# Altium footprint library Full_lib.PcbLib: 247 footprints (part 14 of 16)
Each footprint in its own frame and in the unit in brackets; x right, y up, seen from the top. Pads: shape width x height; smd on the part's side, far side on the other; paste and mask are expansions set on the pad; w line width, h text height; cw(c..) or ccw(c..) is an arc to the next point about the centre after c.
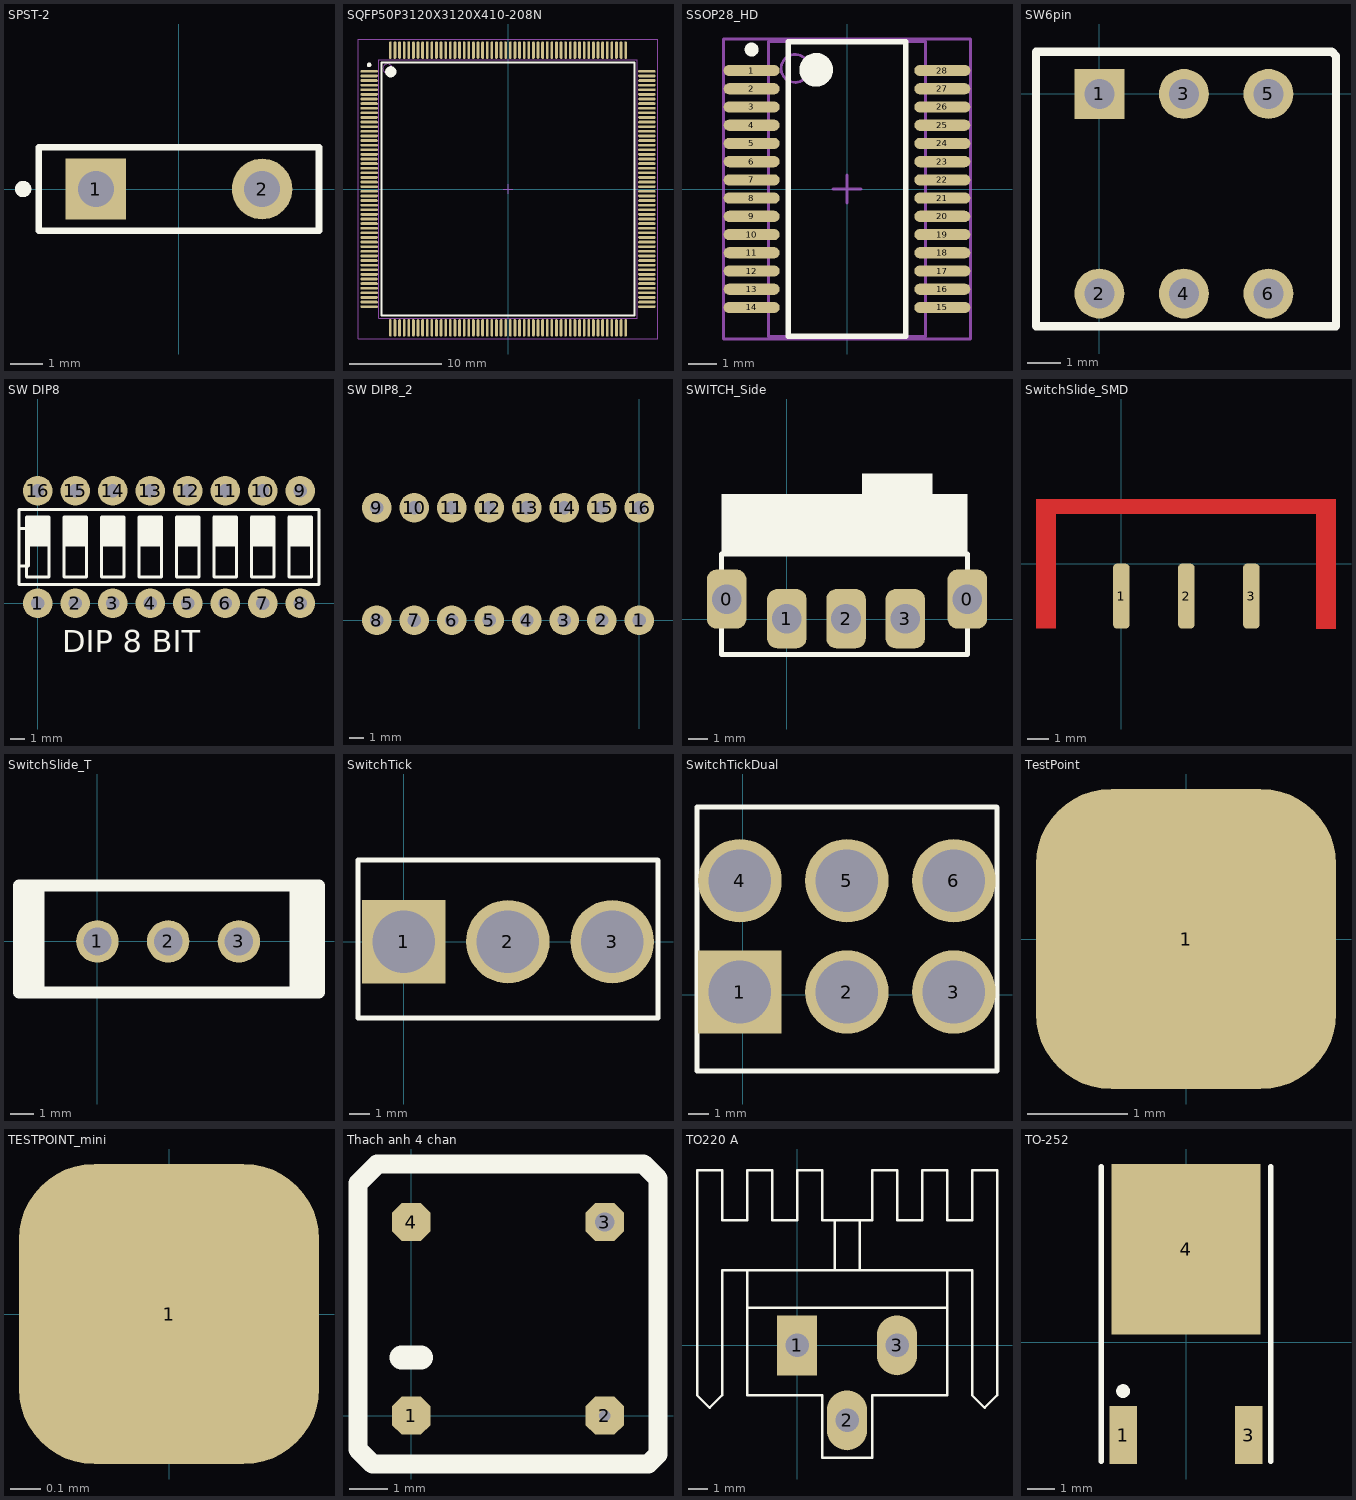
[diagram p13: the footprints below, top view; thin cyan lines are the x and y axes]

## SPST-2 [mm] "Circuit Breaker; 2 Leads"
height 3.9
pads (2):
  rect 1.85x1.85 hole 1.1: 1(-2.54,0)
  round 1.85 hole 1.1: 2(2.54,0)
Top Overlay:
  circle w0.25: c-4.761,-0.001 r0.125
  lines w0.2: -4.28,-1.27 4.28,-1.27 4.28,1.27 -4.28,1.27 -4.28,-1.27

## SQFP50P3120X3120X410-208N [mm] "SQFP, 208-Leads, Body 31.2x31.2mm (max), Pitch 0.50mm, IPC Medium Density"
height 4.1
pads (208):
  oval 1.9x0.3 smd: 1(-15.05,12.75) 2(-15.05,12.25) 3(-15.05,11.75) 4(-15.05,11.25) 5(-15.05,10.75) 6(-15.05,10.25) 7(-15.05,9.75) 8(-15.05,9.25) 9(-15.05,8.75) 10(-15.05,8.25) 11(-15.05,7.75) 12(-15.05,7.25) 13(-15.05,6.75) 14(-15.05,6.25) 15(-15.05,5.75) 16(-15.05,5.25) 17(-15.05,4.75) 18(-15.05,4.25) 19(-15.05,3.75) 20(-15.05,3.25) 21(-15.05,2.75) 22(-15.05,2.25) 23(-15.05,1.75) 24(-15.05,1.25) 25(-15.05,0.75) 26(-15.05,0.25) 27(-15.05,-0.25) 28(-15.05,-0.75) 29(-15.05,-1.25) 30(-15.05,-1.75) 31(-15.05,-2.25) 32(-15.05,-2.75) 33(-15.05,-3.25) 34(-15.05,-3.75) 35(-15.05,-4.25) 36(-15.05,-4.75) 37(-15.05,-5.25) 38(-15.05,-5.75) 39(-15.05,-6.25) 40(-15.05,-6.75) 41(-15.05,-7.25) 42(-15.05,-7.75) 43(-15.05,-8.25) 44(-15.05,-8.75) 45(-15.05,-9.25) 46(-15.05,-9.75) 47(-15.05,-10.25) 48(-15.05,-10.75) 49(-15.05,-11.25) 50(-15.05,-11.75) 51(-15.05,-12.25) 52(-15.05,-12.75) 105(15.05,-12.75) 106(15.05,-12.25) 107(15.05,-11.75) 108(15.05,-11.25) 109(15.05,-10.75) 110(15.05,-10.25) 111(15.05,-9.75) 112(15.05,-9.25) 113(15.05,-8.75) 114(15.05,-8.25) 115(15.05,-7.75) 116(15.05,-7.25) 117(15.05,-6.75) 118(15.05,-6.25) 119(15.05,-5.75) 120(15.05,-5.25) 121(15.05,-4.75) 122(15.05,-4.25) 123(15.05,-3.75) 124(15.05,-3.25) 125(15.05,-2.75) 126(15.05,-2.25) 127(15.05,-1.75) 128(15.05,-1.25) 129(15.05,-0.75) 130(15.05,-0.25) 131(15.05,0.25) 132(15.05,0.75) 133(15.05,1.25) 134(15.05,1.75) 135(15.05,2.25) 136(15.05,2.75) 137(15.05,3.25) 138(15.05,3.75) 139(15.05,4.25) 140(15.05,4.75) 141(15.05,5.25) 142(15.05,5.75) 143(15.05,6.25) 144(15.05,6.75) 145(15.05,7.25) 146(15.05,7.75) 147(15.05,8.25) 148(15.05,8.75) 149(15.05,9.25) 150(15.05,9.75) 151(15.05,10.25) 152(15.05,10.75) 153(15.05,11.25) 154(15.05,11.75) 155(15.05,12.25) 156(15.05,12.75)
  oval 0.3x1.9 smd: 53(-12.75,-15.05) 54(-12.25,-15.05) 55(-11.75,-15.05) 56(-11.25,-15.05) 57(-10.75,-15.05) 58(-10.25,-15.05) 59(-9.75,-15.05) 60(-9.25,-15.05) 61(-8.75,-15.05) 62(-8.25,-15.05) 63(-7.75,-15.05) 64(-7.25,-15.05) 65(-6.75,-15.05) 66(-6.25,-15.05) 67(-5.75,-15.05) 68(-5.25,-15.05) 69(-4.75,-15.05) 70(-4.25,-15.05) 71(-3.75,-15.05) 72(-3.25,-15.05) 73(-2.75,-15.05) 74(-2.25,-15.05) 75(-1.75,-15.05) 76(-1.25,-15.05) 77(-0.75,-15.05) 78(-0.25,-15.05) 79(0.25,-15.05) 80(0.75,-15.05) 81(1.25,-15.05) 82(1.75,-15.05) 83(2.25,-15.05) 84(2.75,-15.05) 85(3.25,-15.05) 86(3.75,-15.05) 87(4.25,-15.05) 88(4.75,-15.05) 89(5.25,-15.05) 90(5.75,-15.05) 91(6.25,-15.05) 92(6.75,-15.05) 93(7.25,-15.05) 94(7.75,-15.05) 95(8.25,-15.05) 96(8.75,-15.05) 97(9.25,-15.05) 98(9.75,-15.05) 99(10.25,-15.05) 100(10.75,-15.05) 101(11.25,-15.05) 102(11.75,-15.05) 103(12.25,-15.05) 104(12.75,-15.05) 157(12.75,15.05) 158(12.25,15.05) 159(11.75,15.05) 160(11.25,15.05) 161(10.75,15.05) 162(10.25,15.05) 163(9.75,15.05) 164(9.25,15.05) 165(8.75,15.05) 166(8.25,15.05) 167(7.75,15.05) 168(7.25,15.05) 169(6.75,15.05) 170(6.25,15.05) 171(5.75,15.05) 172(5.25,15.05) 173(4.75,15.05) 174(4.25,15.05) 175(3.75,15.05) 176(3.25,15.05) 177(2.75,15.05) 178(2.25,15.05) 179(1.75,15.05) 180(1.25,15.05) 181(0.75,15.05) 182(0.25,15.05) 183(-0.25,15.05) 184(-0.75,15.05) 185(-1.25,15.05) 186(-1.75,15.05) 187(-2.25,15.05) 188(-2.75,15.05) 189(-3.25,15.05) 190(-3.75,15.05) 191(-4.25,15.05) 192(-4.75,15.05) 193(-5.25,15.05) 194(-5.75,15.05) 195(-6.25,15.05) 196(-6.75,15.05) 197(-7.25,15.05) 198(-7.75,15.05) 199(-8.25,15.05) 200(-8.75,15.05) 201(-9.25,15.05) 202(-9.75,15.05) 203(-10.25,15.05) 204(-10.75,15.05) 205(-11.25,15.05) 206(-11.75,15.05) 207(-12.25,15.05) 208(-12.75,15.05)
Top Overlay:
  circle w0.6: c-12.7,12.7 r0.3
  circle w0.25: c-15.05,13.45 r0.125
  lines w0.2: -13.7,-13.7 13.7,-13.7 13.7,13.7 -13.7,13.7 -13.7,-13.7
Mechanical 13:
  circle w0.1: c-13.05,13.05 r0.5
  lines w0.1: -14,-14 14,-14 14,14 -14,14 -14,-14
Mechanical 15:
  lines w0.1: -0.5,0 0.5,0 ; 0,-0.5 0,0.5 ; -16.25,-16.25 16.25,-16.25 16.25,16.25 -16.25,16.25 -16.25,-16.25
3D body: height 4.1, standoff 0.25, extent -14,-14 14,14

## SSOP28_HD [mm] "SOP, 28-Leads, Body 10,5x5,6mm (max), Pitch 0,65mm, IPC High Density"
height 2
pads (28):
  oval 2x0.4 smd: 1(-3.4,4.225) 2(-3.4,3.575) 3(-3.4,2.925) 4(-3.4,2.275) 5(-3.4,1.625) 6(-3.4,0.975) 7(-3.4,0.325) 8(-3.4,-0.325) 9(-3.4,-0.975) 10(-3.4,-1.625) 11(-3.4,-2.275) 12(-3.4,-2.925) 13(-3.4,-3.575) 14(-3.4,-4.225) 15(3.4,-4.225) 16(3.4,-3.575) 17(3.4,-2.925) 18(3.4,-2.275) 19(3.4,-1.625) 20(3.4,-0.975) 21(3.4,-0.325) 22(3.4,0.325) 23(3.4,0.975) 24(3.4,1.625) 25(3.4,2.275) 26(3.4,2.925) 27(3.4,3.575) 28(3.4,4.225)
Top Overlay:
  circle w0.6: c-1.1,4.25 r0.3
  circle w0.25: c-3.4,4.975 r0.125
  lines w0.2: -2.1,-5.25 2.1,-5.25 2.1,5.25 -2.1,5.25 -2.1,-5.25
Mechanical 13:
  circle w0.1: c-1.85,4.3 r0.5
  lines w0.1: -2.8,-5.25 2.8,-5.25 2.8,5.25 -2.8,5.25 -2.8,-5.25
Mechanical 15:
  lines w0.1: -0.5,0 0.5,0 ; 0,-0.5 0,0.5 ; -4.4,-5.35 4.4,-5.35 4.4,5.35 -4.4,5.35 -4.4,-5.35
3D body: height 2, standoff 0.25, extent -2.8,-5.25 2.8,5.25

## SW6pin [mm]
height 12
pads (6):
  rect 1.5x1.5 hole 0.9: 1(0,0)
  round 1.5 hole 0.9: 2(0,-6) 3(2.54,0) 4(2.54,-6) 5(5.08,0) 6(5.08,-6)
Top Overlay:
  lines w0.254: -1.905,-6.985 -1.905,1.27 6.985,1.27 7.112,1.143 7.112,-6.985 -1.905,-6.985

## SW DIP8 [mil]
pads (16):
  round 78.73 hole 35: 1(0,0) 2(100,0) 3(200,0) 4(300,0) 5(400,0) 6(500,0) 7(600,0) 8(700,0) 9(700,300) 10(600,300) 11(500,300) 12(400,300) 13(300,300) 14(200,300) 15(100,300) 16(0,300)
Top Overlay:
  drawing of 94 lines, arcs and shapes, not listed
  text "DIP 8 BIT" at 65,-130 h59.05

## SW DIP8_2 [mil]
pads (16):
  round 78.73 hole 35: 1(0,0) 2(-100,0) 3(-200,0) 4(-300,0) 5(-400,0) 6(-500,0) 7(-600,0) 8(-700,0) 9(-700,300) 10(-600,300) 11(-500,300) 12(-400,300) 13(-300,300) 14(-200,300) 15(-100,300) 16(0,300)
Bottom Overlay:
  drawing of 94 lines, arcs and shapes, not listed

## SWITCH_Side [mm]
pads (5):
  rrect50% 2x3 hole 1.5: 0(-3.048,1.016) 0(9.144,1.016) 1(0,0.025) 2(3,0.025) 3(6,0.025)
Top Overlay:
  rectangle: 3.81,6.096 7.366,7.366
  rectangle: -3.302,3.302 9.144,6.35
  lines w0.254: -3.302,-1.778 9.144,-1.778 9.144,3.302 -3.302,3.302 -3.302,-1.778

## SwitchSlide_SMD [mil]
height 393.7
pads (3):
  rrect50% 30x118.11 smd: 1(0,-59) 2(118.11,-59) 3(236.22,-59)
Top Layer:
  rectangle: -155,90 390,118
  rectangle: 354,-119 390,104
  rectangle: -155,-118 -119,105

## SwitchSlide_T [mm]
height 10
pads (3):
  round 1.8 hole 1.2: 1(0,0) 2(3,0) 3(6,0)
Top Overlay:
  rectangle: 8.153,-2.21 9.373,2.311
  rectangle: -3.327,-2.134 -2.235,2.413
  lines w0.508: -3.327,-2.159 9.398,-2.159 9.398,2.362 -3.327,2.362 -3.327,-0.914 -3.327,-2.159

## SwitchTick [mm]
height 35
pads (3):
  rect 4x4 hole 3: 1(0,0)
  round 4 hole 3: 2(5,0) 3(10,0)
Top Overlay:
  lines w0.254: -2.184,3.886 -2.184,-3.658 12.192,-3.658 12.192,3.886 12.167,3.912 -2.184,3.912

## SwitchTickDual [mm]
height 10
pads (6):
  rect 4x4 hole 3: 1(-0.127,0.127)
  round 4 hole 3: 2(5,0.127) 3(10.127,0.127) 4(-0.127,5.461) 5(5,5.461) 6(10.127,5.461)
Top Overlay:
  lines w0.254: -2.184,1.422 -2.184,8.966 ; -2.184,3.886 -2.184,-3.658 12.192,-3.658 12.192,3.886 ; -2.184,8.992 12.167,8.992 12.192,8.966 12.192,1.422

## TestPoint [mm]
pads (1):
  rrect50% 3x3 smd: 1(0,0)

## TESTPOINT_mini [mm]
pads (1):
  rrect50% 1x1 smd: 1(0,0)

## Thach anh 4 chan [mm]
pads (4):
  oct 1x1 smd: 1(0,0) 4(0,5.08)
  oct 1x1 hole 0.3: 2(5.08,0)
  oct 1x1 hole 0.5: 3(5.08,5.08)
Top Overlay:
  lines w0.508: -1.397,-0.889 -1.397,5.969 -1.397,6.096 -1.27,6.223 -0.889,6.604 6.096,6.604 6.477,6.223 6.477,-0.889 6.477,-1.016 6.223,-1.27 -0.889,-1.27 -1.016,-1.27 -1.397,-0.889
  lines w0.635: -0.254,1.524 0.254,1.524

## TO220 A [mil]
pads (3):
  rect 80x120 hole 47: 1(0,0)
  oval 80x120 hole 47: 2(100,-150) 3(200,0)
Top Overlay:
  lines w5: -100,75 300,75 ; 75,150 75,250 ; 125,150 125,250 ; -100,150 -100,-100 50,-100 50,-225 150,-225 150,-100 300,-100 300,150 ; -100,150 300,150 ; -100,150 -150,150 -150,-100 -175,-125 -200,-100 -200,350 -150,350 -150,250 -100,250 -100,350 -50,350 -50,250 0,250 0,350 50,350 50,250 150,250 150,350 200,350 200,250 250,250 250,350 300,350 300,250 350,250 350,350 400,350 400,-100 375,-125 350,-100 350,150 300,150

## TO-252 [mm]
pads (3):
  rect 1x2.1 smd: 1(-2.285,-3.375) 3(2.285,-3.375)
  rect 5.4x6.2 smd: 4(0,3.375)
Top Overlay:
  circle w0.25: c-2.285,-1.775 r0.125
  lines w0.2: -3.085,-4.325 -3.085,6.375 ; 3.085,-4.325 3.085,6.375